# EAGLE library part IS61LV6416 (library Ilya_Teach)
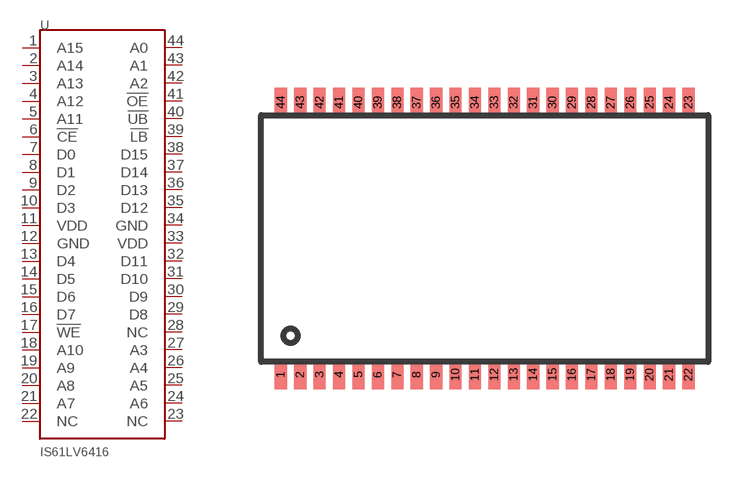
[diagram p15: symbol with the pads of TSOP44; footprint TSOP44]

Designator prefix -

## IS61LV6416  [TSOP44]
1  A15
2  A14
3  A13
4  A12
5  A11
6  !CE
7  D0
8  D1
9  D2
10  D3
11  VDD
12  GND
13  D4
14  D5
15  D6
16  D7
17  !WE
18  A10
19  A9
20  A8
21  A7
22  NC
23  NC
24  A6
25  A5
26  A4
27  A3
28  NC
29  D8
30  D9
31  D10
32  D11
33  VDD
34  GND
35  D12
36  D13
37  D14
38  D15
39  !LB
40  !UB
41  !OE
42  A2
43  A1
44  A0

## Footprint TSOP44 (pad centres in mm)
smd 0.5 x 1.2: 1 -8.4,-5.605; 2 -7.6,-5.605; 3 -6.8,-5.605; 4 -6,-5.605; 5 -5.2,-5.605; 6 -4.4,-5.605; 7 -3.6,-5.605; 8 -2.8,-5.605; 9 -2,-5.605; 10 -1.2,-5.605; 11 -0.4,-5.605; 12 0.4,-5.605; 13 1.2,-5.605; 14 2,-5.605; 15 2.8,-5.605; 16 3.6,-5.605; 17 4.4,-5.605; 18 5.2,-5.605; 19 6,-5.605; 20 6.8,-5.605; 21 7.6,-5.605; 22 8.4,-5.605; 23 8.4,5.605; 24 7.6,5.605; 25 6.8,5.605; 26 6,5.605; 27 5.2,5.605; 28 4.4,5.605; 29 3.6,5.605; 30 2.8,5.605; 31 2,5.605; 32 1.2,5.605; 33 0.4,5.605; 34 -0.4,5.605; 35 -1.2,5.605; 36 -2,5.605; 37 -2.8,5.605; 38 -3.6,5.605; 39 -4.4,5.605; 40 -5.2,5.605; 41 -6,5.605; 42 -6.8,5.605; 43 -7.6,5.605; 44 -8.4,5.605